# EAGLE library part 8FEETPIN (library 629)
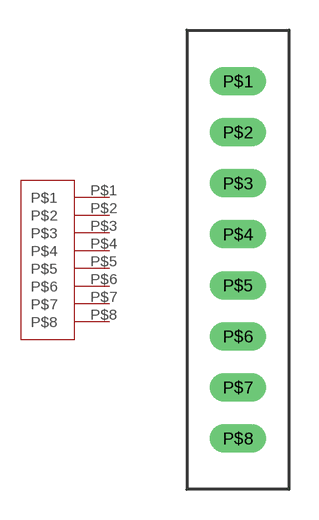
[diagram p3: symbol with the pads of 8FEETPIN; footprint 8FEETPIN]

Designator prefix -

## 8FEETPIN  [8FEETPIN]
P$1  P$1
P$2  P$2
P$3  P$3
P$4  P$4
P$5  P$5
P$6  P$6
P$7  P$7
P$8  P$8

## Footprint 8FEETPIN (pad centres in mm)
drill 0.9 long: P$1 0,2.54; P$2 0,0; P$3 0,-2.54; P$4 0,-5.08; P$5 0,-7.62; P$6 0,-10.16; P$7 0,-12.7; P$8 0,-15.24